# EAGLE library part IDG300 (library imu1)
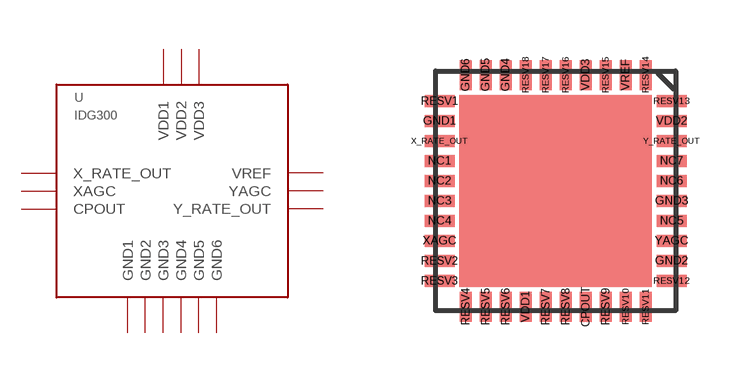
[diagram p2: symbol with the pads of IDG300; footprint IDG300]

Designator prefix -

## IDG300  [IDG300]
CPOUT  CPOUT
GND1  GND1
GND2  GND2
GND3  GND3
GND4  GND4
GND5  GND5
GND6  GND6
VDD1  VDD1
VDD2  VDD2
VDD3  VDD3
VREF  VREF
X_RATE_OUT  X_RATE_OUT
XAGC  XAGC
Y_RATE_OUT  Y_RATE_OUT
YAGC  YAGC

## Footprint IDG300 (pad centres in mm)
smd 0.3 x 0.75: CPOUT 3.75,0.1; GND4 1.75,5.9; GND5 1.25,5.9; GND6 0.75,5.9; RESV4 0.75,0.1; RESV5 1.25,0.1; RESV6 1.75,0.1; RESV7 2.75,0.1; RESV8 3.25,0.1; RESV9 4.25,0.1; RESV10 4.75,0.1; RESV11 5.25,0.1; RESV14 5.25,5.9; RESV15 4.25,5.9; RESV16 3.25,5.9; RESV17 2.75,5.9; RESV18 2.25,5.9; VDD1 2.25,0.1; VDD3 3.75,5.9; VREF 4.75,5.9
smd 0.75 x 0.3: GND1 0.1,4.75; GND2 5.9,1.25; GND3 5.9,2.75; NC1 0.1,3.75; NC2 0.1,3.25; NC3 0.1,2.75; NC4 0.1,2.25; NC5 5.9,2.25; NC6 5.9,3.25; NC7 5.9,3.75; RESV1 0.1,5.25; RESV2 0.1,1.25; RESV3 0.1,0.75; RESV12 5.9,0.75; RESV13 5.9,5.25; VDD2 5.9,4.75; X_RATE_OUT 0.1,4.25; XAGC 0.1,1.75; Y_RATE_OUT 5.9,4.25; YAGC 5.9,1.75